# Altium footprint library Resistor.PcbLib: 31 footprints (part 2 of 2)
Each footprint in its own frame and in the unit in brackets; x right, y up, seen from the top. Pads: shape width x height; smd on the part's side, far side on the other; paste and mask are expansions set on the pad; w line width, h text height; cw(c..) or ccw(c..) is an arc to the next point about the centre after c.
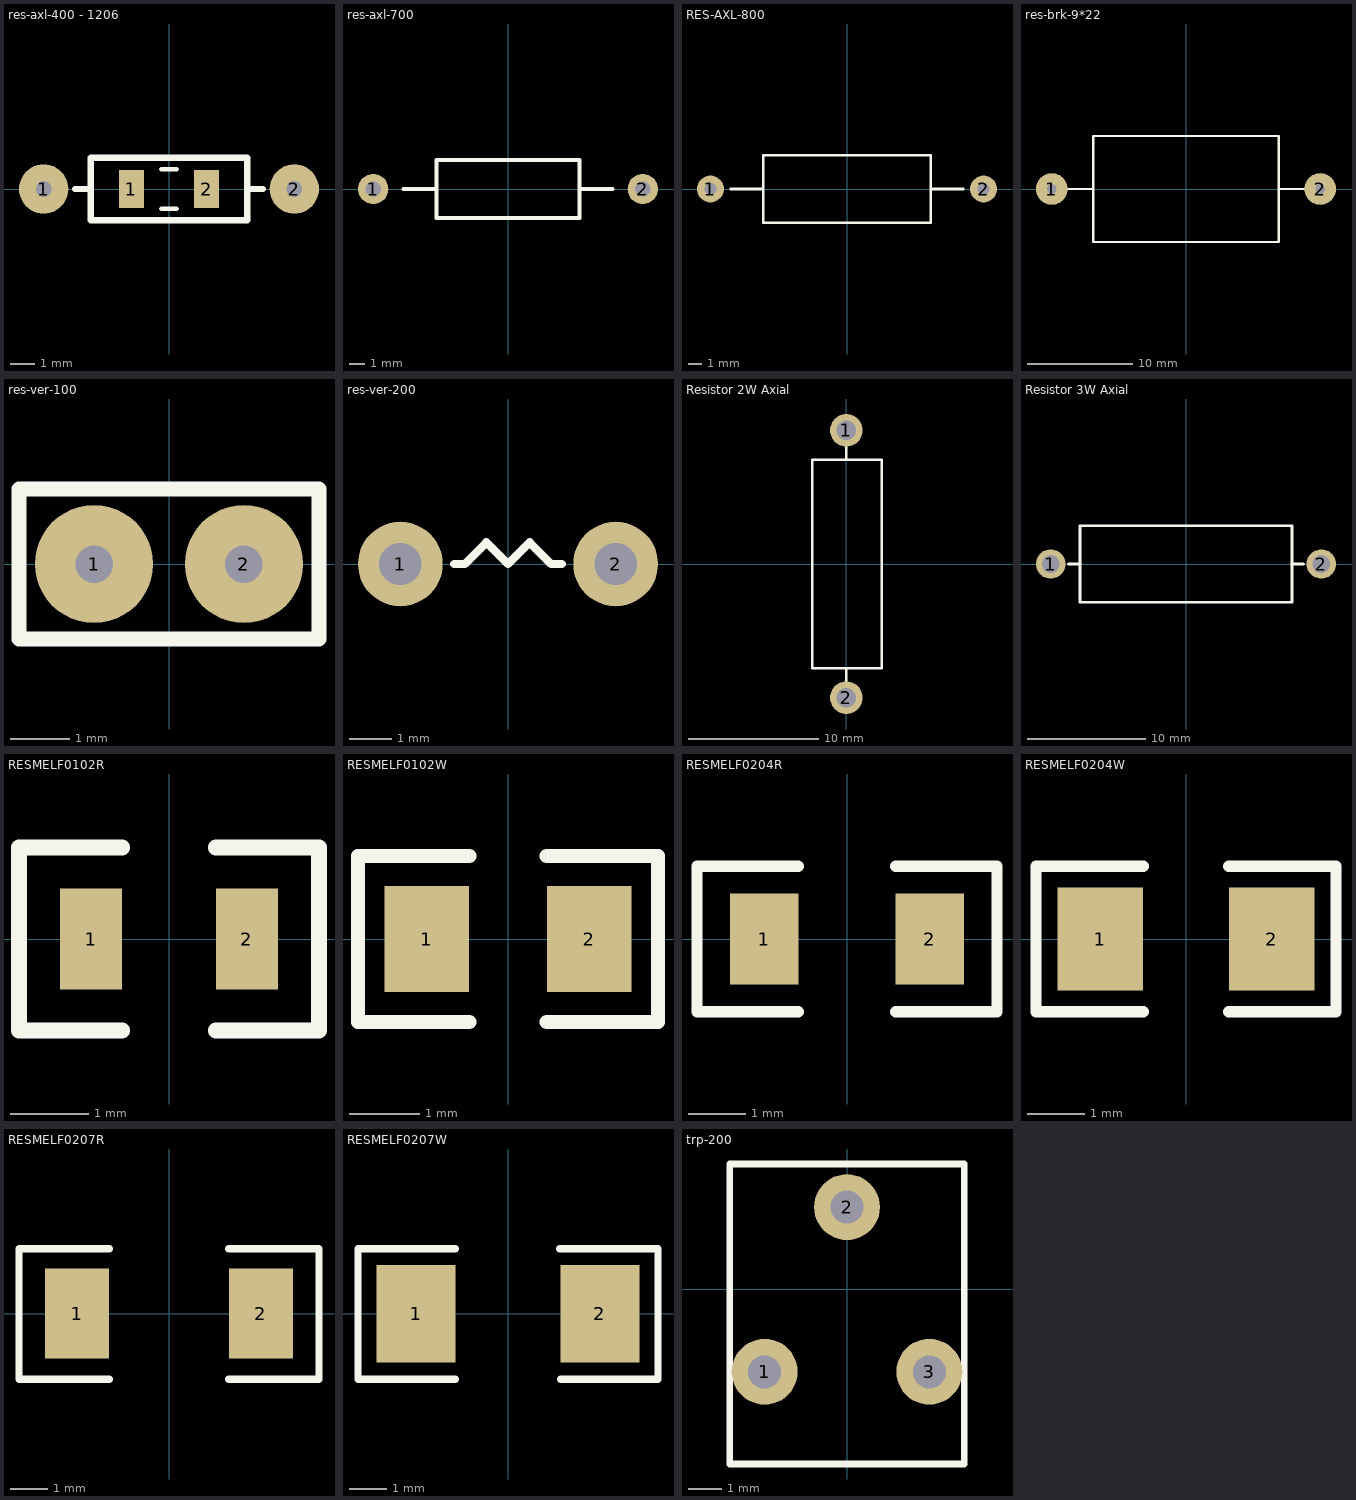
[diagram p1: the footprints below, top view; thin cyan lines are the x and y axes]

## res-axl-400 - 1206 [mm] "1/4W Resistor - Axial Mount + 1206 SMD Footrpint"
height 2
pads (4):
  round 2 hole 0.635: 1(-5.08,0) 2(5.08,0)
  rect 1.016x1.524 smd: 1(-1.525,0) 2(1.523,0)
Top Overlay:
  lines w0.2: -0.301,-0.8 0.299,-0.8 ; -0.301,0.8 0.299,0.8
  lines w0.254: -3.81,0 -3.175,0 ; 3.175,0 3.81,0 ; -3.175,-1.27 3.175,-1.27 3.175,1.27 -3.175,1.27 -3.175,-1.27
3D body "SW3dPS-RESISTOR, 0.25 W, 0.4 IN LEAD PITCH.STEP": height 3.63, standoff -1.84, extent -5.385,-1.143 5.385,1.168
3D body "User Library-1206 SMD Resistor.step": height 1.05, standoff 0.05, extent -1.601,-0.8 1.599,0.8

## res-axl-700 [mm] "1W Resistor - Axial Mount"
height 4
pads (2):
  round 2 hole 1: 1(-8.89,0) 2(8.89,0)
Top Overlay:
  lines w0.254: -6.89,0 -4.715,0 ; 4.715,0 6.89,0 ; -4.715,0 -4.715,-1.905 4.715,-1.905 4.715,1.905 -4.715,1.905 -4.715,0
3D body "User Library-one watt_resistor_700spacing-1.STEP": height 6.5, standoff -4, extent -9.163,-3.047 9.417,2.945

## RES-AXL-800 [mm] "3W Resistor"
pads (2):
  round 2 hole 0.9: 1(-10.16,0) 2(10.16,0)
Top Overlay:
  lines w0.2: -8.66,0 -6.235,0 ; 6.235,0 8.66,0 ; -6.235,0 -6.235,-2.5 6.235,-2.5 6.235,2.5 -6.235,2.5 -6.235,0

## res-brk-9*22 [mm]
pads (2):
  round 3 hole 0.9: 1(-12.7,0) 2(12.7,0)
Top Overlay:
  lines w0.2: -11.2,0 -8.775,0 ; 8.775,0 11.2,0 ; -8.775,0 -8.775,-5 8.775,-5 8.775,5 -8.775,5 -8.775,0

## res-ver-100 [mm] "1/4W Vertical Mount Resistor"
height 7.62
pads (2):
  round 2 hole 0.635: 1(-1.27,0) 2(1.27,0)
Top Overlay:
  lines w0.254: -2.54,-1.27 -2.54,1.27 2.54,1.27 2.54,-1.27 -2.54,-1.27

## res-ver-200 [mm] "1W Vertical Mount Resistor"
height 15.24
pads (2):
  round 2 hole 1: 1(-2.54,0) 2(2.54,0)
Top Overlay:
  lines w0.2: -1.27,0 -1.016,0 -0.508,0.508 0,0 0.508,0.508 1.016,0 1.27,0

## Resistor 2W Axial [mm]
pads (2):
  round 2.5 hole 1.5: 1(0,10.25) 2(0,-10.25)
Top Overlay:
  lines w0.2: 0,-9 0,-7.984 ; 0,7.984 0,9 ; -2.6,-8 -2.6,8 2.7,8 2.7,-8 -2.6,-8
3D body "User Library-RES-2W.STEP": height 5.5, standoff -3, extent -2.75,-10.51 2.75,10.51

## Resistor 3W Axial [mm]
pads (2):
  round 2.5 hole 1.5: 1(-11.5,0) 2(11.5,0)
Top Overlay:
  lines w0.25: -10,0 -8.984,0 ; 8.984,0 10,0 ; -9,-3.25 -9,3.25 9,3.25 9,-3.25 -9,-3.25
3D body "User Library-RES-3W.STEP": height 6.5, standoff -3, extent -11.83,-3.25 11.83,3.25

## RESMELF0102R [mm] "MELF resistor 0102 reflow soldering"
pads (2):
  rect 0.8x1.3 smd: 1(-1,0) 2(1,0)
Top Overlay:
  lines w0.203: -0.6,-1.175 -1.925,-1.175 -1.925,1.175 -0.6,1.175 ; 0.6,-1.175 1.925,-1.175 1.925,1.175 0.6,1.175
3D body "RESMELF0102.stp": height 1.1, standoff 0, extent -1.099,-0.55 1.099,0.55

## RESMELF0102W [mm] "MELF resistor 0102 wave soldering"
pads (2):
  rect 1.2x1.5 smd: 1(-1.15,0) 2(1.15,0)
Top Overlay:
  lines w0.203: -0.55,-1.175 -2.125,-1.175 -2.125,1.175 -0.55,1.175 ; 0.55,-1.175 2.125,-1.175 2.125,1.175 0.55,1.175
3D body "RESMELF0102.stp": height 1.1, standoff 0, extent -1.099,-0.55 1.099,0.55

## RESMELF0204R [mm] "MELF resistor 0204 reflow soldering"
pads (2):
  rect 1.2x1.6 smd: 1(-1.45,0) 2(1.45,0)
Top Overlay:
  lines w0.2: -0.85,-1.275 -2.625,-1.275 -2.625,1.275 -0.85,1.275 ; 0.85,-1.275 2.625,-1.275 2.625,1.275 0.85,1.275
3D body "RESMELF0204.stp": height 1.4, standoff 0, extent -1.8,-0.7 1.8,0.7

## RESMELF0204W [mm] "MELF resistor 0204 wave soldering"
pads (2):
  rect 1.5x1.8 smd: 1(-1.5,0) 2(1.5,0)
Top Overlay:
  lines w0.2: -0.75,-1.275 -2.625,-1.275 -2.625,1.275 -0.75,1.275 ; 0.75,-1.275 2.625,-1.275 2.625,1.275 0.75,1.275
3D body "RESMELF0204.stp": height 1.4, standoff 0, extent -1.8,-0.7 1.8,0.7

## RESMELF0207R [mm] "MELF resistor 0207 reflow soldering"
pads (2):
  rect 1.7x2.4 smd: 1(-2.45,0) 2(2.45,0)
Top Overlay:
  lines w0.2: -1.6,-1.75 -4,-1.75 -4,1.725 -1.6,1.725 ; 1.6,-1.75 4,-1.75 4,1.725 1.6,1.725
3D body "RESMELF0207.stp": height 2.26, standoff 0, extent -2.9,-1.125 2.9,1.131

## RESMELF0207W [mm] "MELF resistor 0207 wave soldering"
pads (2):
  rect 2.1x2.6 smd: 1(-2.45,0) 2(2.45,0)
Top Overlay:
  lines w0.2: -1.4,-1.75 -4,-1.75 -4,1.725 -1.4,1.725 ; 1.375,1.725 4,1.725 4,-1.75 1.4,-1.75
3D body "RESMELF0207.stp": height 2.26, standoff 0, extent -2.9,-1.125 2.9,1.131

## trp-200 [mm] "Trimpot - 200mil Pitch"
height 5
pads (3):
  round 2 hole 1: 1(-2.5,-2.5) 2(0,2.5) 3(2.5,-2.5)
Top Overlay:
  lines w0.2: -3.556,-5.3 -3.556,3.81 3.556,3.81 3.556,-5.3 -3.556,-5.3
3D body "3306F001.stp": height 7.34, standoff -3.15, extent -3.407,-5.064 3.4,3.064